# Altium footprint library zucker.PcbLib: 27 footprints (part 2 of 2)
Each footprint in its own frame and in the unit in brackets; x right, y up, seen from the top. Pads: shape width x height; smd on the part's side, far side on the other; paste and mask are expansions set on the pad; w line width, h text height; cw(c..) or ccw(c..) is an arc to the next point about the centre after c.
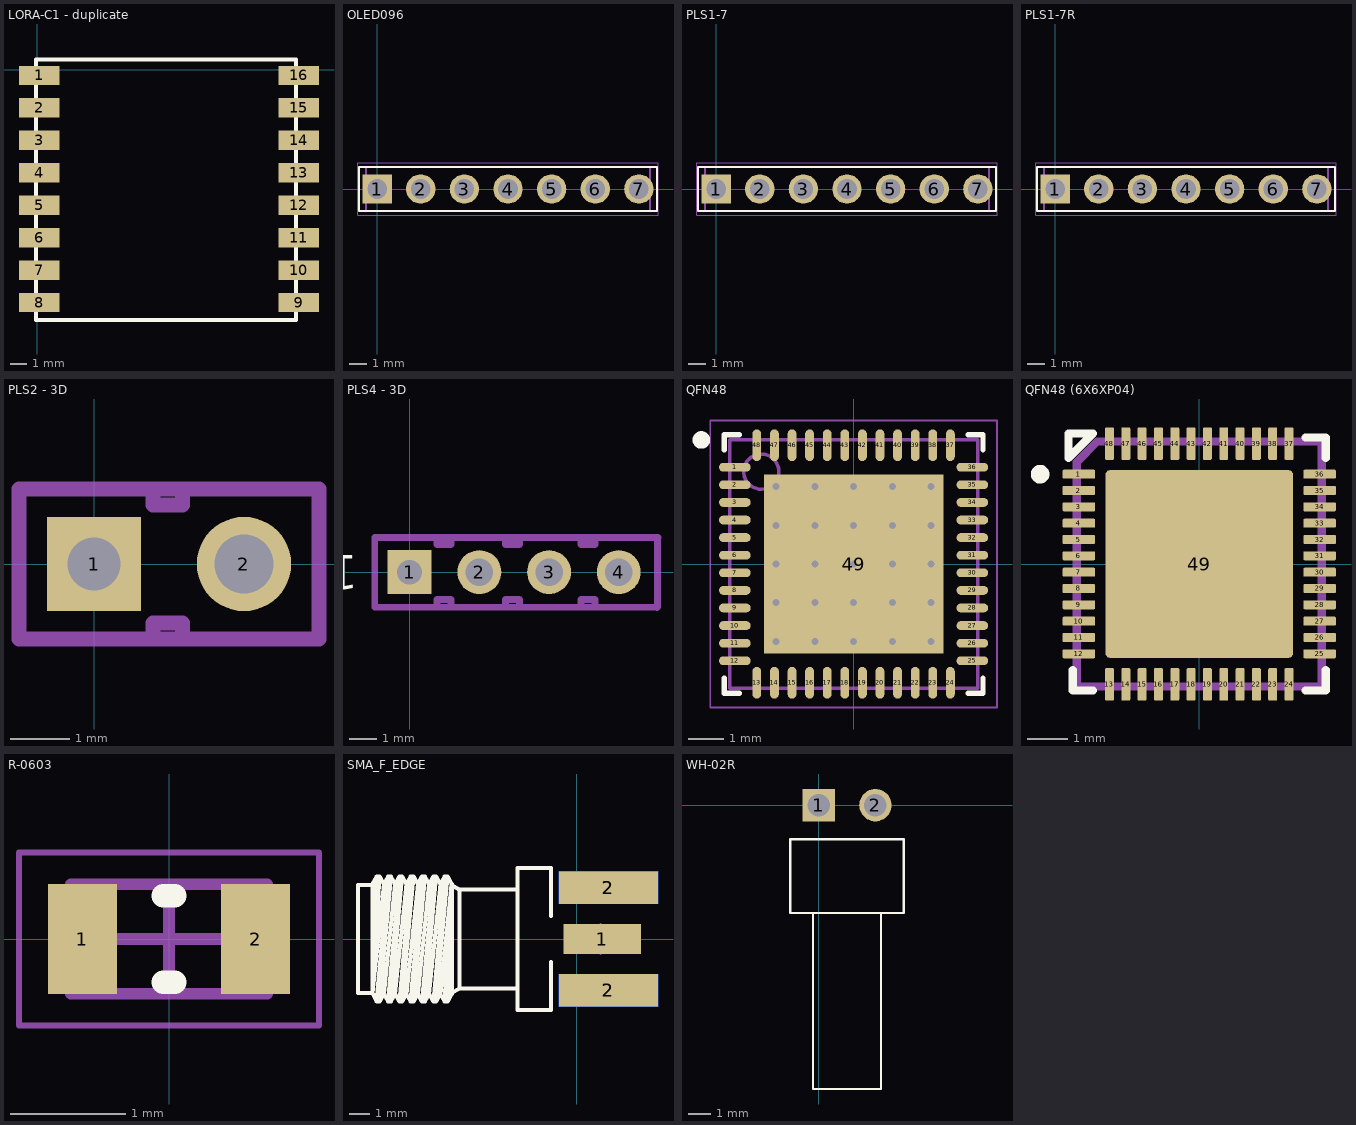
[diagram p1: the footprints below, top view; thin cyan lines are the x and y axes]

## LORA-C1 - duplicate [mm]
pads (16):
  rect 2.5x1.2 smd: 1(0.14,-0.34) 2(0.14,-2.34) 3(0.14,-4.34) 4(0.14,-6.34) 5(0.14,-8.34) 6(0.14,-10.34) 7(0.14,-12.34) 8(0.14,-14.34) 9(16.14,-14.34) 10(16.14,-12.34) 11(16.14,-10.34) 12(16.14,-8.34) 13(16.14,-6.34) 14(16.14,-4.34) 15(16.14,-2.34) 16(16.14,-0.34)
Top Overlay:
  lines w0.25: -0.05,-15.41 15.97,-15.41 15.97,0.64 -0.05,0.64 -0.05,-15.41

## OLED096 [mm] "Header, Vertical, 2.54 mm pitch; 0.70 mm lead width, 7 pins, 1 row, 7 pins per row, 16.51 mm L X 2.54 mm W X 7.54 mm H body"
height 7.54
pads (7):
  rect 1.71x1.71 hole 1.14 paste-1.71: 1(0,0)
  round 1.71 hole 1.14 paste-1.71: 2(2.54,0) 3(5.08,0) 4(7.62,0) 5(10.16,0) 6(12.7,0) 7(15.24,0)
Top Overlay:
  lines w0.12: -1.04,-1.27 -1.04,1.27 16.28,1.27 16.28,-1.27 -1.04,-1.27
Mechanical 11:
  lines w0.12: -0.64,-1.27 -0.64,1.27 15.88,1.27 15.88,-1.27 -0.64,-1.27
Mechanical 12:
  lines w0.025: -0.635,-1.27 -0.635,1.27 15.875,1.27 15.875,-1.27 -0.635,-1.27 ; -0.35,-0.35 -0.35,0.35 0.35,0.35 0.35,-0.35 -0.35,-0.35 ; 2.19,-0.35 2.19,0.35 2.89,0.35 2.89,-0.35 2.19,-0.35 ; 4.73,-0.35 4.73,0.35 5.43,0.35 5.43,-0.35 4.73,-0.35 ; 7.27,-0.35 7.27,0.35 7.97,0.35 7.97,-0.35 7.27,-0.35 ; 9.81,-0.35 9.81,0.35 10.51,0.35 10.51,-0.35 9.81,-0.35 ; 12.35,-0.35 12.35,0.35 13.05,0.35 13.05,-0.35 12.35,-0.35 ; 14.89,-0.35 14.89,0.35 15.59,0.35 15.59,-0.35 14.89,-0.35
Mechanical 15:
  circle w0.05: c0,0 r0.25
  lines w0.05: -0.35,0 0.35,0 ; 0,-0.35 0,0.35 ; -1.11,-1.52 -1.11,1.52 16.35,1.52 16.35,-1.52 -1.11,-1.52
3D body "OLED_096_assy.stp": height 6.54, standoff -6.21, extent -4.88,-24.5 20.12,1.2

## PLS1-7 [mm] "Header, Vertical, 2.54 mm pitch; 0.70 mm lead width, 7 pins, 1 row, 7 pins per row, 16.51 mm L X 2.54 mm W X 7.54 mm H body"
height 7.54
pads (7):
  rect 1.71x1.71 hole 1.14 paste-1.71: 1(0,0)
  round 1.71 hole 1.14 paste-1.71: 2(2.54,0) 3(5.08,0) 4(7.62,0) 5(10.16,0) 6(12.7,0) 7(15.24,0)
Top Overlay:
  lines w0.12: -1.04,-1.27 -1.04,1.27 16.28,1.27 16.28,-1.27 -1.04,-1.27
Mechanical 11:
  lines w0.12: -0.64,-1.27 -0.64,1.27 15.88,1.27 15.88,-1.27 -0.64,-1.27
Mechanical 12:
  lines w0.025: -0.635,-1.27 -0.635,1.27 15.875,1.27 15.875,-1.27 -0.635,-1.27 ; -0.35,-0.35 -0.35,0.35 0.35,0.35 0.35,-0.35 -0.35,-0.35 ; 2.19,-0.35 2.19,0.35 2.89,0.35 2.89,-0.35 2.19,-0.35 ; 4.73,-0.35 4.73,0.35 5.43,0.35 5.43,-0.35 4.73,-0.35 ; 7.27,-0.35 7.27,0.35 7.97,0.35 7.97,-0.35 7.27,-0.35 ; 9.81,-0.35 9.81,0.35 10.51,0.35 10.51,-0.35 9.81,-0.35 ; 12.35,-0.35 12.35,0.35 13.05,0.35 13.05,-0.35 12.35,-0.35 ; 14.89,-0.35 14.89,0.35 15.59,0.35 15.59,-0.35 14.89,-0.35
Mechanical 15:
  circle w0.05: c0,0 r0.25
  lines w0.05: -0.35,0 0.35,0 ; 0,-0.35 0,0.35 ; -1.11,-1.52 -1.11,1.52 16.35,1.52 16.35,-1.52 -1.11,-1.52
3D body "HDRV7W70P254_7X1_1651X254H754.STEP": height 7.54, standoff -2.3, extent -0.635,-1.27 15.875,1.27

## PLS1-7R [mm] "Header, Vertical, 2.54 mm pitch; 0.70 mm lead width, 7 pins, 1 row, 7 pins per row, 16.51 mm L X 2.54 mm W X 7.54 mm H body"
height 7.54
pads (7):
  rect 1.71x1.71 hole 1.14 paste-1.71: 1(0,0)
  round 1.71 hole 1.14 paste-1.71: 2(2.54,0) 3(5.08,0) 4(7.62,0) 5(10.16,0) 6(12.7,0) 7(15.24,0)
Top Overlay:
  lines w0.12: -1.04,-1.27 16.28,-1.27 16.28,1.27 -1.04,1.27 -1.04,-1.27
Mechanical 11:
  lines w0.12: -0.64,-1.27 15.88,-1.27 15.88,1.27 -0.64,1.27 -0.64,-1.27
Mechanical 12:
  lines w0.025: -0.635,-1.27 15.875,-1.27 15.875,1.27 -0.635,1.27 -0.635,-1.27 ; -0.35,-0.35 0.35,-0.35 0.35,0.35 -0.35,0.35 -0.35,-0.35 ; 2.19,-0.35 2.89,-0.35 2.89,0.35 2.19,0.35 2.19,-0.35 ; 4.73,-0.35 5.43,-0.35 5.43,0.35 4.73,0.35 4.73,-0.35 ; 7.27,-0.35 7.97,-0.35 7.97,0.35 7.27,0.35 7.27,-0.35 ; 9.81,-0.35 10.51,-0.35 10.51,0.35 9.81,0.35 9.81,-0.35 ; 12.35,-0.35 13.05,-0.35 13.05,0.35 12.35,0.35 12.35,-0.35 ; 14.89,-0.35 15.59,-0.35 15.59,0.35 14.89,0.35 14.89,-0.35
Mechanical 15:
  circle w0.05: c0,0 r0.25
  lines w0.05: -0.35,0 0.35,0 ; 0,-0.35 0,0.35 ; -1.11,-1.52 16.35,-1.52 16.35,1.52 -1.11,1.52 -1.11,-1.52
3D body "PinHeader_1x07_P2.54mm_Horizontal.step": height 2.54, standoff -3, extent -1.27,-0.32 16.51,10.04

## PLS2 - 3D [mm]
pads (2):
  rect 1.6x1.6 hole 0.9: 1(0,0)
  round 1.6 hole 1: 2(2.54,0)
Mechanical 7:
  lines w0.254: 1,-1.25 1,-1 1.5,-1 1.5,-1.25 ; 1,1.25 1,1 1.5,1 1.5,1.25 ; -1.27,-1.27 -1.27,1.27 3.81,1.27 3.81,-1.27 -1.27,-1.27
3D body "PLS-2.STEP": height 8.8, standoff -3, extent -1.27,-1.27 3.81,1.27

## PLS4 - 3D [mm]
pads (4):
  rect 1.6x1.6 hole 0.9: 1(0,0)
  round 1.6 hole 1: 2(2.54,0) 3(5.08,0) 4(7.62,0)
Top Overlay:
  text "1" at -1.88,0.625 h1.25
Mechanical 7:
  lines w0.254: 1,-1.25 1,-1 1.5,-1 1.5,-1.25 ; 1,1.25 1,1 1.5,1 1.5,1.25 ; 3.5,-1.25 3.5,-1 4,-1 4,-1.25 ; 3.5,1.25 3.5,1 4,1 4,1.25 ; 6.25,-1.25 6.25,-1 6.75,-1 6.75,-1.25 ; 6.25,1.25 6.25,1 6.75,1 6.75,1.25 ; 9.02,-1.28 -1.27,-1.27 -1.27,1.27 9.05,1.27 ; 9.03,-1.27 9.03,1.27
3D body "PLS-4.STEP": height 8.8, standoff -3, extent -1.27,-1.27 8.89,1.27

## QFN48 [mm] "QFN, 48-Leads, Body 7,00x7,00mm, Pitch 0,50mm, Thermal Pad 5,10x5,10mm, IPC Medium Density"
height 1
pads (49):
  oval 0.9x0.25 smd: 1(-3.375,2.75) 2(-3.375,2.25) 3(-3.375,1.75) 4(-3.375,1.25) 5(-3.375,0.75) 6(-3.375,0.25) 7(-3.375,-0.25) 8(-3.375,-0.75) 9(-3.375,-1.25) 10(-3.375,-1.75) 11(-3.375,-2.25) 12(-3.375,-2.75) 25(3.375,-2.75) 26(3.375,-2.25) 27(3.375,-1.75) 28(3.375,-1.25) 29(3.375,-0.75) 30(3.375,-0.25) 31(3.375,0.25) 32(3.375,0.75) 33(3.375,1.25) 34(3.375,1.75) 35(3.375,2.25) 36(3.375,2.75)
  oval 0.25x0.9 smd: 13(-2.75,-3.375) 14(-2.25,-3.375) 15(-1.75,-3.375) 16(-1.25,-3.375) 17(-0.75,-3.375) 18(-0.25,-3.375) 19(0.25,-3.375) 20(0.75,-3.375) 21(1.25,-3.375) 22(1.75,-3.375) 23(2.25,-3.375) 24(2.75,-3.375) 37(2.75,3.375) 38(2.25,3.375) 39(1.75,3.375) 40(1.25,3.375) 41(0.75,3.375) 42(0.25,3.375) 43(-0.25,3.375) 44(-0.75,3.375) 45(-1.25,3.375) 46(-1.75,3.375) 47(-2.25,3.375) 48(-2.75,3.375)
  rect 5.1x5.1 smd: 49(0,0)
via -2.2,2.2 diameter 0.5 hole 0.2
via -1.1,2.2 diameter 0.5 hole 0.2
via 0,2.2 diameter 0.5 hole 0.2
via 1.1,2.2 diameter 0.5 hole 0.2
via 2.2,2.2 diameter 0.5 hole 0.2
via -2.2,1.1 diameter 0.5 hole 0.2
via -1.1,1.1 diameter 0.5 hole 0.2
via 0,1.1 diameter 0.5 hole 0.2
via 1.1,1.1 diameter 0.5 hole 0.2
via 2.2,1.1 diameter 0.5 hole 0.2
via -2.2,0 diameter 0.5 hole 0.2
via -1.1,0 diameter 0.5 hole 0.2
via 0,0 diameter 0.5 hole 0.2
via 1.1,0 diameter 0.5 hole 0.2
via 2.2,0 diameter 0.5 hole 0.2
via -2.2,-1.1 diameter 0.5 hole 0.2
via -1.1,-1.1 diameter 0.5 hole 0.2
via 0,-1.1 diameter 0.5 hole 0.2
via 1.1,-1.1 diameter 0.5 hole 0.2
via 2.2,-1.1 diameter 0.5 hole 0.2
via -2.2,-2.2 diameter 0.5 hole 0.2
via -1.1,-2.2 diameter 0.5 hole 0.2
via 0,-2.2 diameter 0.5 hole 0.2
via 1.1,-2.2 diameter 0.5 hole 0.2
via 2.2,-2.2 diameter 0.5 hole 0.2
Top Overlay:
  circle w0.25: c-4.325,3.525 r0.125
  lines w0.15: -3.675,-3.25 -3.675,-3.675 -3.25,-3.675 ; -3.675,3.25 -3.675,3.675 -3.25,3.675 ; 3.25,-3.675 3.675,-3.675 3.675,-3.25 ; 3.25,3.675 3.675,3.675 3.675,3.25
Mechanical 13:
  circle w0.1: c-2.625,2.625 r0.5
  lines w0.1: -3.525,-3.525 -3.525,3.525 3.525,3.525 3.525,-3.525 -3.525,-3.525
Mechanical 15:
  lines w0.05: -4.075,-4.075 -4.075,4.075 4.075,4.075 4.075,-4.075 -4.075,-4.075
  lines w0.1: -0.5,0 0.5,0 ; 0,-0.5 0,0.5
3D body "QFN-48-1EP_7x7mm_P0.5mm_EP5.15x5.15mm.step": height 0.77, standoff 0, extent -3.5,-3.5 3.5,3.5

## QFN48 (6X6XP04) [mm]
pads (49):
  rrect30% 0.8x0.22 smd paste-0.015 mask+0.07: 1(-2.95,2.2) 2(-2.95,1.8) 3(-2.95,1.4) 4(-2.95,1) 5(-2.95,0.6) 6(-2.95,0.2) 7(-2.95,-0.2) 8(-2.95,-0.6) 9(-2.95,-1) 10(-2.95,-1.4) 11(-2.95,-1.8) 12(-2.95,-2.2) 25(2.95,-2.2) 26(2.95,-1.8) 27(2.95,-1.4) 28(2.95,-1) 29(2.95,-0.6) 30(2.95,-0.2) 31(2.95,0.2) 32(2.95,0.6) 33(2.95,1) 34(2.95,1.4) 35(2.95,1.8) 36(2.95,2.2)
  rrect30% 0.22x0.8 smd paste-0.015 mask+0.07: 13(-2.2,-2.95) 14(-1.8,-2.95) 15(-1.4,-2.95) 16(-1,-2.95) 17(-0.6,-2.95) 18(-0.2,-2.95) 19(0.2,-2.95) 20(0.6,-2.95) 21(1,-2.95) 22(1.4,-2.95) 23(1.8,-2.95) 24(2.2,-2.95) 37(2.2,2.95) 38(1.8,2.95) 39(1.4,2.95) 40(1,2.95) 41(0.6,2.95) 42(0.2,2.95) 43(-0.2,2.95) 44(-0.6,2.95) 45(-1,2.95) 46(-1.4,2.95) 47(-1.8,2.95) 48(-2.2,2.95)
  rrect5% 4.6x4.6 smd paste-5 mask+0.07: 49(0,0)
Top Overlay:
  circle w0.254: c-3.9,2.2 r0.1
  lines w0.2: -3.1,-2.6 -3.1,-3.1 -2.6,-3.1 ; 2.6,-3.1 3.1,-3.1 3.1,-2.6 ; 2.6,3.1 3.1,3.1 3.1,2.6 ; -3.2,2.6 -2.6,3.2 -3.2,3.2 -3.2,2.6
Top Paste:
  drawing of 9 lines, arcs and shapes, not listed
Mechanical 7:
  lines w0.2: -3,-3 -3,2.5 -2.5,3 3,3 3,-3 -3,-3
3D body "User Library-QFN48.step": height 0.85, standoff -0.02, extent -3.02,-3.015 3.02,3.025

## R-0603 [mm] "Chip Resistor, 2-Leads, Body 1,60x0,82mm, IPC Medium Density"
height 0.6
pads (2):
  rect 0.6x0.95 smd: 1(-0.75,0) 2(0.75,0)
Top Overlay:
  lines w0.2: -0.05,-0.375 0.05,-0.375 ; -0.05,0.375 0.05,0.375
Mechanical 13:
  lines w0.1: -0.85,-0.475 0.85,-0.475 0.85,0.475 -0.85,0.475 -0.85,-0.475
Mechanical 15:
  lines w0.05: -1.3,-0.75 1.3,-0.75 1.3,0.75 -1.3,0.75 -1.3,-0.75
  lines w0.1: -0.475,0 0.475,0 ; 0,-0.475 0,0.475
3D body "R_0603_1608Metric.step": height 0.45, standoff 0, extent -0.8,-0.4 0.8,0.4

## SMA_F_EDGE [mm] "SMA End Launch Jack for 1.58mm PCB, 50 Ohm, Flat Tab Contact"
height 7.92
pads (5):
  rect 3.81x1.5 smd: 1(1.27,0)
  rect 4.9x1.6 smd far side: 2(1.575,-2.54) 2(1.575,2.54)
  rect 4.9x1.6 smd: 2(1.575,-2.54) 2(1.575,2.54)
Top Overlay:
  lines w0.2: -10.09,2.665 -10.805,2.665 -10.805,-2.665 -10.09,-2.665 ; -6.17,-2.665 -5.795,-2.453 ; -2.925,-2.453 -5.795,-2.453 ; -2.925,2.447 -5.795,2.447 ; -1.275,-1.137 -1.275,-3.5 -2.925,-3.5 -2.925,3.5 -1.275,3.5 -1.275,1.137 ; -10.09,-2.665 -9.879,3.094 ; -10.09,-2.665 -9.741,3.094 ; -10.09,-2.665 -9.53,2.715 ; -10.09,-2.665 -9.879,-3.094 ; -10.09,-2.665 -10.09,2.715 -9.879,3.094 ; -9.879,-3.094 -9.319,3.094 ; -9.879,-3.094 -9.741,-3.094 ; -9.879,3.094 -9.741,3.094 ; -9.741,-3.094 -9.181,3.094 ; -9.741,-3.094 -9.53,-2.715 ; -9.741,3.094 -9.53,2.715 ; -9.53,-2.715 -8.97,2.715 ; -9.53,-2.715 -9.319,-3.094 ; -9.53,2.715 -9.319,3.094 ; -9.319,-3.094 -8.759,3.094 ; -9.319,-3.094 -9.181,-3.094 ; -9.319,3.094 -9.181,3.094 ; -9.181,-3.094 -8.621,3.094 ; -9.181,-3.094 -8.97,-2.715 ; -9.181,3.094 -8.97,2.715 ; -8.97,-2.715 -8.41,2.715 ; -8.97,-2.715 -8.759,-3.094 ; -8.97,2.715 -8.759,3.094 ; -8.759,-3.094 -8.199,3.094 ; -8.759,-3.094 -8.621,-3.094 ; -8.759,3.094 -8.621,3.094 ; -8.621,-3.094 -8.061,3.094 ; -8.621,-3.094 -8.41,-2.715 ; -8.621,3.094 -8.41,2.715 ; -8.41,-2.715 -7.85,2.715 ; -8.41,-2.715 -8.199,-3.094 ; -8.41,2.715 -8.199,3.094 ; -8.199,-3.094 -7.639,3.094 ; -8.199,-3.094 -8.061,-3.094 ; -8.199,3.094 -8.061,3.094 ; -8.061,-3.094 -7.501,3.094 ; -8.061,-3.094 -7.85,-2.715 ; -8.061,3.094 -7.85,2.715 ; -7.85,-2.715 -7.29,2.715 ; -7.85,-2.715 -7.639,-3.094 ; -7.85,2.715 -7.639,3.094 ; -7.639,-3.094 -7.079,3.094 ; -7.639,-3.094 -7.501,-3.094 ; -7.639,3.094 -7.501,3.094 ; -7.501,-3.094 -6.941,3.094 ; -7.501,-3.094 -7.29,-2.715 ; -7.501,3.094 -7.29,2.715 ; -7.29,-2.715 -6.73,2.715 ; -7.29,-2.715 -7.079,-3.094 ; -7.29,2.715 -7.079,3.094 ; -7.079,-3.094 -6.519,3.094 ; -7.079,-3.094 -6.941,-3.094 ; -7.079,3.094 -6.941,3.094 ; -6.941,-3.094 -6.381,3.094 ; -6.941,-3.094 -6.73,-2.715 ; -6.941,3.094 -6.73,2.715 ; -6.73,-2.715 -6.17,2.713 ; -6.73,-2.715 -6.519,-3.094 ; -6.73,2.715 -6.519,3.094 ; -6.519,-3.094 -6.17,2.713 ; -6.519,-3.094 -6.381,-3.094 ; -6.519,3.094 -6.381,3.094 ; -6.381,-3.094 -6.17,2.665 -5.795,2.447 ; -6.381,-3.094 -6.17,-2.715 -6.17,2.713 ; -6.381,3.094 -6.17,2.713 ; -5.795,-2.453 -5.795,2.447
Mechanical 8:
  lines w0.1: -0.5,0 0,0 ; 0,-0.5 0,0 ; 0,0.5 0,0 ; 0.5,0 0,0 ; 1.175,-0.75 1.175,0.75
Mechanical 14:
  lines w0.1: -10.09,2.665 -10.805,2.665 -10.805,-2.665 -10.09,-2.665 ; -6.17,-2.665 -5.795,-2.453 ; -2.925,-2.453 -5.795,-2.453 ; -2.925,2.447 -5.795,2.447 ; 0.635,-0.251 0.635,0.251 ; -10.09,-2.665 -9.879,3.094 ; -10.09,-2.665 -9.741,3.094 ; -10.09,-2.665 -9.53,2.715 ; -10.09,-2.665 -9.879,-3.094 ; -10.09,-2.665 -10.09,2.715 -9.879,3.094 ; -9.879,-3.094 -9.319,3.094 ; -9.879,-3.094 -9.741,-3.094 ; -9.879,3.094 -9.741,3.094 ; -9.741,-3.094 -9.181,3.094 ; -9.741,-3.094 -9.53,-2.715 ; -9.741,3.094 -9.53,2.715 ; -9.53,-2.715 -8.97,2.715 ; -9.53,-2.715 -9.319,-3.094 ; -9.53,2.715 -9.319,3.094 ; -9.319,-3.094 -8.759,3.094 ; -9.319,-3.094 -9.181,-3.094 ; -9.319,3.094 -9.181,3.094 ; -9.181,-3.094 -8.621,3.094 ; -9.181,-3.094 -8.97,-2.715 ; -9.181,3.094 -8.97,2.715 ; -8.97,-2.715 -8.41,2.715 ; -8.97,-2.715 -8.759,-3.094 ; -8.97,2.715 -8.759,3.094 ; -8.759,-3.094 -8.199,3.094 ; -8.759,-3.094 -8.621,-3.094 ; -8.759,3.094 -8.621,3.094 ; -8.621,-3.094 -8.061,3.094 ; -8.621,-3.094 -8.41,-2.715 ; -8.621,3.094 -8.41,2.715 ; -8.41,-2.715 -7.85,2.715 ; -8.41,-2.715 -8.199,-3.094 ; -8.41,2.715 -8.199,3.094 ; -8.199,-3.094 -7.639,3.094 ; -8.199,-3.094 -8.061,-3.094 ; -8.199,3.094 -8.061,3.094 ; -8.061,-3.094 -7.501,3.094 ; -8.061,-3.094 -7.85,-2.715 ; -8.061,3.094 -7.85,2.715 ; -7.85,-2.715 -7.29,2.715 ; -7.85,-2.715 -7.639,-3.094 ; -7.85,2.715 -7.639,3.094 ; -7.639,-3.094 -7.079,3.094 ; -7.639,-3.094 -7.501,-3.094 ; -7.639,3.094 -7.501,3.094 ; -7.501,-3.094 -6.941,3.094 ; -7.501,-3.094 -7.29,-2.715 ; -7.501,3.094 -7.29,2.715 ; -7.29,-2.715 -6.73,2.715 ; -7.29,-2.715 -7.079,-3.094 ; -7.29,2.715 -7.079,3.094 ; -7.079,-3.094 -6.519,3.094 ; -7.079,-3.094 -6.941,-3.094 ; -7.079,3.094 -6.941,3.094 ; -6.941,-3.094 -6.381,3.094 ; -6.941,-3.094 -6.73,-2.715 ; -6.941,3.094 -6.73,2.715 ; -6.73,-2.715 -6.17,2.713 ; -6.73,-2.715 -6.519,-3.094 ; -6.73,2.715 -6.519,3.094 ; -6.519,-3.094 -6.17,2.713 ; -6.519,-3.094 -6.381,-3.094 ; -6.519,3.094 -6.381,3.094 ; -6.381,-3.094 -6.17,2.665 -5.795,2.447 ; -6.381,-3.094 -6.17,-2.715 -6.17,2.713 ; -6.381,3.094 -6.17,2.713 ; -5.795,-2.453 -5.795,2.447
3D body "SMA_female_edge_6.5x6.5.step": height 3.7, standoff -2.8, extent -10.73,-3.25 2.77,3.25

## WH-02R [mm]
pads (2):
  rect 1.45x1.45 hole 1: 1(0,0)
  round 1.45 hole 1: 2(2.54,0)
Top Overlay:
  lines w0.102: -0.254,-4.826 -0.254,-12.7 2.794,-12.7 2.794,-4.826 ; -1.27,-4.826 -1.27,-1.524 3.81,-1.524 3.81,-4.826 -1.27,-4.826
3D body "CI3102P1H00-NH.STEP": height 5.9, standoff -3.3, extent -1.302,-13.301 3.798,0.269